# Altium schematic symbol library Dent_Schlib.SchLib: 46 symbols (part 2 of 2)
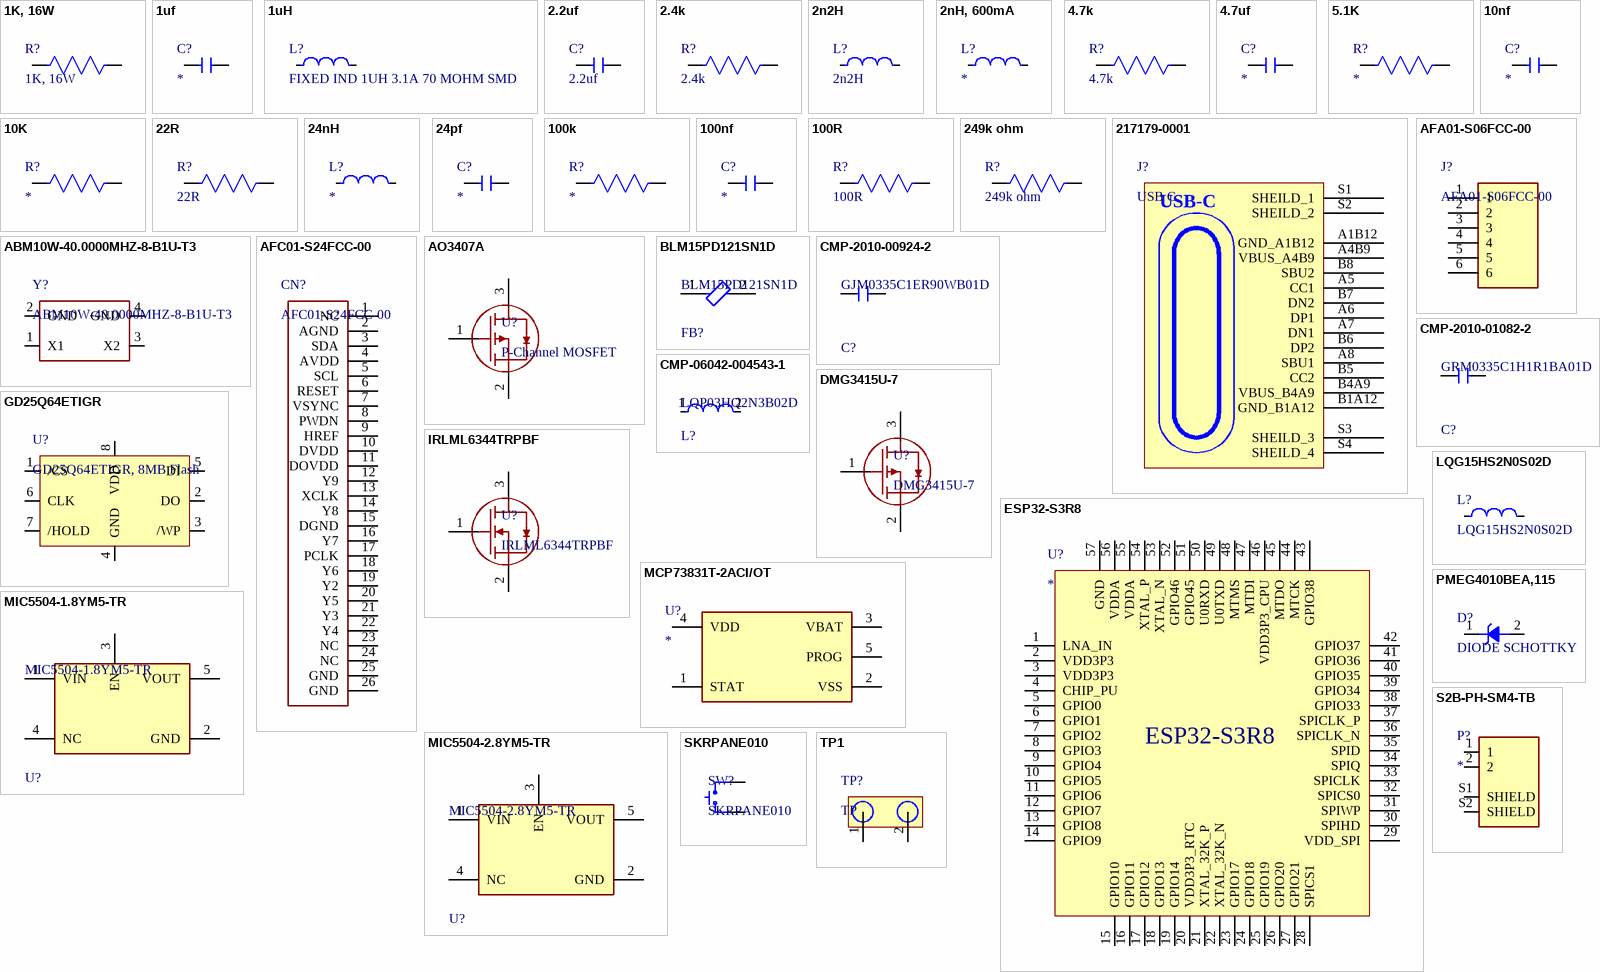
[diagram p2: symbols 1K, 16W to TP1]

## DMG3415U-7
designator U?
P-Channel 20 V 4A (Ta) 900mW (Ta) Surface Mount SOT-23-3; Manufacturer: Diodes; Package Body Material: Plastic; Transistor Element Material: SILICON; Additional Feature: HIGH RELIABILITY; Drain-source On Resistance-Max: 42.5mR; DS Breakdown Voltage-Min: 20V; FET Technology: METAL-OXIDE SEMICONDUCTOR; Number of Elements: 1; Operating Mode: ENHANCEMENT MODE; Time @ Peak Reflow Temperature-Max (s): 40s; Transistor Application: SWITCHING; Qualification Status: Not Qualified; Supplier: Digikey; Supplier Part Number: DMG3415UDICT-ND; Manufacturer Part Number: DMG3415U-7; RoHS: Yes; Category: MOSFETs; Stock: 10798; Pricing: 1=0.45, 10=0.277, 100=0.1743, 500=0.13838 (USD); Pins: 3; Package Shape: Rectangular; Terminal Finish: Tin; Max Operating Temperature: 150°C; JESD-609 Code: e3; Polarity/Channel Type: P-CHANNEL; Drain Current-Max (Abs) (ID): 4A; Drain Current-Max (ID): 4A; JESD-30 Code: R-PDSO-G3; Moisture Sensitivity Level: 1; Package Style: SMALL OUTLINEMeter; Peak Reflow Temperature (Cel): 260°C; Power Dissipation-Max (Abs): 900mW; Surface Mount: Yes; Terminal Form: Gull Wing; Terminal Position: DUAL; Reach SVHC Compliant: Yes; RoHS Compliant: Yes; ComponentLink1URL: https://datasheet.ciiva.com:443/pdfs/VipMasterIC/IC/DIOD/DIOD-S-A0004428614/DIOD-S-A0004428614-1.pdf?src-supplier=IHS+Markit; ComponentLink1Description: https://datasheet.ciiva.com:443/pdfs/VipMasterIC/IC/DIOD/DIOD-S-A0004428614/DIOD-S-A0004428614-1.pdf?src-supplier=IHS+Markit; ComponentLink2URL: https://datasheet.ciiva.com/11174/ds31735-11174977.pdf?src-supplier=Avnet; ComponentLink2Description: https://datasheet.ciiva.com/11174/ds31735-11174977.pdf?src-supplier=Avnet; ComponentLink3URL: https://datasheet.ciiva.com/13061/ds31735-64958-13061831.pdf?src-supplier=Mouser; ComponentLink3Description: https://datasheet.ciiva.com/13061/ds31735-64958-13061831.pdf?src-supplier=Mouser; ComponentLink4URL: https://datasheet.ciiva.com/935/ds31735-935013.pdf?src-supplier=Digikey; ComponentLink4Description: https://datasheet.ciiva.com/935/ds31735-935013.pdf?src-supplier=Digikey; ComponentLink5URL: https://datasheet.ciiva.com/935/ds31735-935014.pdf?src-supplier=Digikey; ComponentLink5Description: https://datasheet.ciiva.com/935/ds31735-935014.pdf?src-supplier=Digikey; ComponentLink6URL: https://datasheet.ciiva.com/935/ds31735-935015.pdf?src-supplier=Digikey; ComponentLink6Description: https://datasheet.ciiva.com/935/ds31735-935015.pdf?src-supplier=Digikey; ComponentLink7URL: https://datasheet.ciiva.com/8115/ds31735-8115357.pdf?src-supplier=Avnet; ComponentLink7Description: https://datasheet.ciiva.com/8115/ds31735-8115357.pdf?src-supplier=Avnet; ComponentLink8URL: https://datasheet.ciiva.com/8023/ds31735-8023980.pdf?src-supplier=Element14; ComponentLink8Description: https://datasheet.ciiva.com/8023/ds31735-8023980.pdf?src-supplier=Element14; ComponentLink9URL: https://datasheet.ciiva.com/22712/1915618-22712394.pdf?src-supplier=Element14; ComponentLink9Description: https://datasheet.ciiva.com/22712/1915618-22712394.pdf?src-supplier=Element14; ComponentLink10URL: https://datasheet.ciiva.com/16387/ds31735-16387485.pdf?src-supplier=Future+Electronics; ComponentLink10Description: https://datasheet.ciiva.com/16387/ds31735-16387485.pdf?src-supplier=Future+Electronics; LCSC Part No.: C96616
footprint SOT95P240X105-3N
pins: 1, 2, 3

## ESP32-S3R8
designator U?
IC RF TXRX+MCU BLE 56QFN; Manufacturer: Espressif Systems; Manufacturer Part Number: ESP32-S3R8; Supplier: Digikey; Supplier Part Number: 1904-ESP32-S3R8CT-ND; RoHS: No; Category: RF Receivers, Transceivers; Stock: 792; Pricing: 1=2.3, 2000=2.28001 (USD); ComponentLink1URL: https://datasheet.octopart.com/ESP32-S3R8-Espressif-Systems-datasheet-188867343.pdf?src-supplier=TME; ComponentLink1Description: https://datasheet.octopart.com/ESP32-S3R8-Espressif-Systems-datasheet-188867343.pdf?src-supplier=TME; LCSC Part No.: C2913194
footprint FP-ESP32-S3R8-IPC_B
pins: 1 LNA_IN, 2 VDD3P3, 3 VDD3P3, 4 CHIP_PU, 5 GPIO0, 6 GPIO1, 7 GPIO2, 8 GPIO3, 9 GPIO4, 10 GPIO5, 11 GPIO6, 12 GPIO7, 13 GPIO8, 14 GPIO9, 15 GPIO10, 16 GPIO11, 17 GPIO12, 18 GPIO13, 19 GPIO14, 20 VDD3P3_RTC, 21 XTAL_32K_P, 22 XTAL_32K_N, 23 GPIO17, 24 GPIO18, 25 GPIO19, 26 GPIO20, 27 GPIO21, 28 SPICS1, 29 VDD_SPI, 30 SPIHD, 31 SPIWP, 32 SPICS0, 33 SPICLK, 34 SPIQ, 35 SPID, 36 SPICLK_N, 37 SPICLK_P, 38 GPIO33, 39 GPIO34, 40 GPIO35, 41 GPIO36, 42 GPIO37, 43 GPIO38, 44 MTCK, 45 MTDO, 46 VDD3P3_CPU, 47 MTDI, 48 MTMS, 49 U0TXD, 50 U0RXD, 51 GPIO45, 52 GPIO46, 53 XTAL_N, 54 XTAL_P, 55 VDDA, 56 VDDA, 57 GND

## GD25Q64ETIGR
designator U?, comment GD25Q64ETIGR, 8MB Flash
2.7V~3.6V -40℃~85℃ 64MBIT 133MHZ SOP-8-150MIL Nor Flash Rohs; Manufacturer: GigaDevice; Interface: Serial; Max Supply Current: 25mA; Max Supply Voltage: 3.6V; Min Supply Voltage: 3V; Number of Circuits: 1; Operating Supply Voltage: 3.3V; Supplier: DigiKey; Supplier Part Number: 1970-GD25Q64ETIGRCT-ND; Manufacturer Part Number: GD25Q64ETIGR; RoHS: Compliant; Category: Flash; Stock: 3294; Pricing: 1=1.05, 10=0.985, 25=0.958, 50=0.9372, 100=0.9161, 250=0.8882, 500=0.8671, 1000=0.8461 (USD); Clock Rate: 133MHz; Height - Seated (Max): 1.75mm; Length: 4.9mm; Max Operating Temperature: 85°C; Memory Format: FLASH; Min Operating Temperature: -40°C; Number of Terminals: 8; Terminal Pitch: 1.27mm; Width: 3.9mm; ComponentLink1URL: https://datasheet.octopart.com:443/GD25Q64ETIGR-GigaDevice-datasheet-182344543.pdf?src-supplier=IHS; ComponentLink1Description: https://datasheet.octopart.com:443/GD25Q64ETIGR-GigaDevice-datasheet-182344543.pdf?src-supplier=IHS; LCSC Part No.: C2976334
footprint SOIC127P600X175-8N
pins: 1 /CS, 2 DO, 3 /WP, 4 GND, 5 DI, 6 CLK, 7 /HOLD, 8 VDD

## IRLML6344TRPBF
designator U?
MOSFET N-CH 30V 5A MICRO3/SOT23; Manufacturer: Infineon; Manufacturer Package Identifier: Micro3; Drain to Source Resistance: 29mΩ; Element Configuration: Single; Fall Time: 9.1ns; Gate to Source Voltage (Vgs): 12V; Input Capacitance: 650pF; Max Junction Temperature (Tj): 150°C; Max Power Dissipation: 1.3W; Nominal Vgs: 800mV; Number of Channels: 1; Recovery Time: 15ns; Value: 37MΩ; Rise Time: 5.6ns; Turn-Off Delay Time: 22ns; Turn-On Delay Time: 4.2ns; Supplier: DigiKey; Supplier Part Number: IRLML6344TRPBFCT-ND; Manufacturer Part Number: IRLML6344TRPBF; RoHS: Compliant; Category: MOSFETs; Stock: 89780; Pricing: 1=0.38, 10=0.249, 100=0.1612, 500=0.1424, 1000=0.12703 (USD); Case/Package: SOT-23; Continuous Drain Current (ID): 5A; Drain to Source Breakdown Voltage: 30V; Drain to Source Voltage (Vdss): 30V; Height: 1.12mm; Lead Free: Lead Free; Length: 3.04mm; Lifecycle Status: Production; Max Operating Temperature: 150°C; Min Breakdown Voltage: 30V; Min Operating Temperature: -55°C; Mounting Technology: Surface Mount; Number of Elements: 1; Pins: 3; Number of Terminals: 3; On-State Resistance: 29mΩ; Package Quantity: 3000; Packaging: Tape & Reel; Power Dissipation: 1.3W; Radiation Hardening: No; Rds On Max: 29mΩ; REACH SVHC: Yes; Schedule B: 8541290080, 8541290080|8541290080|8541290080|8541290080|8541290080; Threshold Voltage: 800mV; Width: 1.4mm; ComponentLink1URL: https://datasheet.octopart.com:443/IRLML6344TRPBF-Infineon-datasheet-166549069.pdf?src-supplier=IHS; ComponentLink1Description: https://datasheet.octopart.com:443/IRLML6344TRPBF-Infineon-datasheet-166549069.pdf?src-supplier=IHS; ComponentLink2URL: https://datasheet.octopart.com:443/IRLML6344TRPBF-Infineon-datasheet-41230536.pdf?src-supplier=element14+APAC; ComponentLink2Description: https://datasheet.octopart.com:443/IRLML6344TRPBF-Infineon-datasheet-41230536.pdf?src-supplier=element14+APAC; ComponentLink3URL: https://datasheet.octopart.com:443/IRLML6344TRPBF-Infineon-datasheet-10031181.pdf?src-supplier=Farnell; ComponentLink3Description: https://datasheet.octopart.com:443/IRLML6344TRPBF-Infineon-datasheet-10031181.pdf?src-supplier=Farnell; ComponentLink4URL: https://sigma.octopart.com:443/138896058/technical_drawing/Infineon-IRLML6344TRPBF.pdf?src-supplier=Upverter; ComponentLink4Description: https://sigma.octopart.com:443/138896058/technical_drawing/Infineon-IRLML6344TRPBF.pdf?src-supplier=Upverter; ComponentLink5URL: https://datasheet.octopart.com:443/IRLML6344TRPBF-International-Rectifier-datasheet-14062076.pdf?src-supplier=iiiC; ComponentLink5Description: https://datasheet.octopart.com:443/IRLML6344TRPBF-International-Rectifier-datasheet-14062076.pdf?src-supplier=iiiC; ComponentLink6URL: http://sigma.octopart.com:80/conflict_mineral_statement/Infineon-company-51.pdf?src-supplier=Compliance+Statements; ComponentLink6Description: http://sigma.octopart.com:80/conflict_mineral_statement/Infineon-company-51.pdf?src-supplier=Compliance+Statements; ComponentLink7URL: http://sigma.octopart.com:80/rohs_statement/International-Rectifier-company-54.pdf?src-supplier=Compliance+Statements; ComponentLink7Description: http://sigma.octopart.com:80/rohs_statement/International-Rectifier-company-54.pdf?src-supplier=Compliance+Statements; ComponentLink8URL: http://sigma.octopart.com:80/reach_statement/International-Rectifier-company-55.pdf?src-supplier=Compliance+Statements; ComponentLink8Description: http://sigma.octopart.com:80/reach_statement/International-Rectifier-company-55.pdf?src-supplier=Compliance+Statements; LCSC Part No.: C53550
footprint TRANS_IRLML6344TRPBF
pins: 1, 2, 3

## LQG15HS2N0S02D
designator L?
Inductor RF Chip Multi-Layer 2nH 0.3nH 100MHz 8Q-Factor Air 300mA 100mOhm DCR 0402 Paper T/R; Manufacturer: Murata; Manufacturer Lifecycle Status: IN PRODUCTION; Current Rating: 900mA; DC Resistance (DCR): 90mΩ; Number of Circuits: 1; Q Factor: 8; Self Resonant Frequency: 6GHz; Shielding: No; Tolerance: 15%; Supplier: DigiKey; Supplier Part Number: 490-6569-1-ND; Manufacturer Part Number: LQG15HS2N0S02D; RoHS: Compliant; Category: Fixed Inductors; Stock: 58770; Pricing: 1=0.1, 10=0.036, 100=0.0298, 1000=0.02454, 5000=0.0214 (USD); Case/Package: 0402; Case Code (Imperial): 0402; Case Code (Metric): 1005; Core Material: Air; Current: 300mA; DC Current: 300mA; Depth: 550µm; Height: 500µm; Height - Seated (Max): 558.8µm; Value: 2nH; Lead Free: Contains Lead; Length: 1mm; Lifecycle Status: Production; Max Current Rating: 900mA; Max DC Current: 300mA; Max Operating Temperature: 125°C; Military Standard: Not; Min Operating Temperature: -55°C; Pins: 2; Number of Terminals: 2; Radiation Hardening: No; REACH SVHC: Yes; RMS Current (Irms): 900mA; Schedule B: 8504500000, 8504500000|8504500000|8504500000|8504500000|8504500000; ESR: 90mΩ; Termination: SMD/SMT; Test Frequency: 100MHz; Width: 500µm; ComponentLink1URL: https://datasheet.octopart.com:443/LQG15HS2N0S02D-Murata-datasheet-11550074.pdf?src-supplier=Upverter; ComponentLink1Description: https://datasheet.octopart.com:443/LQG15HS2N0S02D-Murata-datasheet-11550074.pdf?src-supplier=Upverter; ComponentLink2URL: https://datasheet.octopart.com:443/LQG15HS2N0S02D-Murata-datasheet-501917.pdf?src-supplier=Upverter; ComponentLink2Description: https://datasheet.octopart.com:443/LQG15HS2N0S02D-Murata-datasheet-501917.pdf?src-supplier=Upverter; ComponentLink3URL: https://datasheet.octopart.com:443/LQG15HS2N0S02D-Murata-datasheet-104420594.pdf?src-supplier=element14+APAC; ComponentLink3Description: https://datasheet.octopart.com:443/LQG15HS2N0S02D-Murata-datasheet-104420594.pdf?src-supplier=element14+APAC; ComponentLink4URL: https://datasheet.octopart.com:443/LQG15HS2N0S02D-Murata-datasheet-166148638.pdf?src-supplier=TME; ComponentLink4Description: https://datasheet.octopart.com:443/LQG15HS2N0S02D-Murata-datasheet-166148638.pdf?src-supplier=TME; ComponentLink5URL: https://datasheet.octopart.com:443/LQG15HS2N0S02D-Murata-datasheet-140712221.pdf?src-supplier=Ciiva; ComponentLink5Description: https://datasheet.octopart.com:443/LQG15HS2N0S02D-Murata-datasheet-140712221.pdf?src-supplier=Ciiva; ComponentLink6URL: https://datasheet.octopart.com:443/LQG15HS2N0S02D-Murata-datasheet-138753340.pdf?src-supplier=Ciiva; ComponentLink6Description: https://datasheet.octopart.com:443/LQG15HS2N0S02D-Murata-datasheet-138753340.pdf?src-supplier=Ciiva; ComponentLink7URL: https://datasheet.octopart.com:443/LQG15HS2N0S02D-Murata-datasheet-142295944.pdf?src-supplier=Arrow.cn; ComponentLink7Description: https://datasheet.octopart.com:443/LQG15HS2N0S02D-Murata-datasheet-142295944.pdf?src-supplier=Arrow.cn; ComponentLink8URL: https://datasheet.octopart.com:443/LQG15HS2N0S02D-Murata-datasheet-145449626.pdf?src-supplier=Geoflip; ComponentLink8Description: https://datasheet.octopart.com:443/LQG15HS2N0S02D-Murata-datasheet-145449626.pdf?src-supplier=Geoflip; ComponentLink9URL: https://datasheet.octopart.com/LQG15HS2N0S02D-Murata-datasheet-14395927.pdf; ComponentLink9Description: https://datasheet.octopart.com/LQG15HS2N0S02D-Murata-datasheet-14395927.pdf; ComponentLink10URL: https://datasheet.octopart.com:443/LQG15HS2N0S02D-Murata-datasheet-44660258.pdf?src-supplier=Future+Electronics; ComponentLink10Description: https://datasheet.octopart.com:443/LQG15HS2N0S02D-Murata-datasheet-44660258.pdf?src-supplier=Future+Electronics; ComponentLink11URL: http://sigma.octopart.com:80/reach_statement/Murata-company-16.pdf?src-supplier=Compliance+Statements; ComponentLink11Description: http://sigma.octopart.com:80/reach_statement/Murata-company-16.pdf?src-supplier=Compliance+Statements; LCSC Part No.: C18216
footprint INDC1005X55N (FIXED IND 2nH 900mA 90mΩ 0402)
pins: 1, 2

## MCP73831T-2ACI/OT
designator U?
IC BATT CNTL LI-ION 1CEL SOT23-5; Manufacturer: Microchip; Manufacturer Part Number: MCP73831T-2ACI/OT; Package Body Material: Plastic; Adjustable Threshold: Yes; Throw Configuration: POWER SUPPLY SUPPORT CIRCUIT; Number of Channels: 1; Package Equivalence Code: TSOP5/6,.11,37; Power Supplies: 3.3/5V; Supply Current-Max (Isup): 1.5mA; Max Supply Voltage: 6V; Min Supply Voltage: 3.75V; Nominal Supply Voltage: 5.2V; Time @ Peak Reflow Temperature-Max (s): 40s; Qualification Status: Not Qualified; Supplier: Digikey; Supplier Part Number: MCP73831T-2ACI/OTCT-ND; RoHS: Yes; Category: Battery Management; Stock: 33354; Pricing: 1=0.76, 25=0.63, 100=0.6125, 3000=0.5831 (USD); Case/Package: LSSOP; Pins: 5; Package Shape: Rectangular; Terminal Finish: Tin; Min Operating Temperature: -40°C; Max Operating Temperature: 85°C; JESD-609 Code: e3; JESD-30 Code: R-PDSO-G5; Moisture Sensitivity Level: 1; Channels: 1; Package Style: SMALL OUTLINE, LOW PROFILE, SHRINK PITCHMeter; Peak Reflow Temperature (Cel): 260°C; Surface Mount: Yes; Terminal Form: Gull Wing; Terminal Position: DUAL; Length: 2.95mm; Width: 1.65mm; Height - Seated (Max): 1.45mm; Terminal Pitch: 0.95mm; Temperature Grade: INDUSTRIAL; Reach SVHC Compliant: Yes; RoHS Compliant: Yes; ComponentLink1URL: https://datasheet.ciiva.com:443/pdfs/VipMasterIC/IC/MCHP/MCHPS05673/MCHPS05673-1.pdf?src-supplier=IHS+Markit; ComponentLink1Description: https://datasheet.ciiva.com:443/pdfs/VipMasterIC/IC/MCHP/MCHPS05673/MCHPS05673-1.pdf?src-supplier=IHS+Markit; ComponentLink2URL: https://datasheet.ciiva.com/22828/0900766b80d2b53a-22828876.pdf?src-supplier=Rs; ComponentLink2Description: https://datasheet.ciiva.com/22828/0900766b80d2b53a-22828876.pdf?src-supplier=Rs; ComponentLink3URL: https://datasheet.ciiva.com/1137/630369-1137803.pdf?src-supplier=Element14; ComponentLink3Description: https://datasheet.ciiva.com/1137/630369-1137803.pdf?src-supplier=Element14; ComponentLink4URL: https://datasheet.ciiva.com/46385/630369-46385324.pdf?src-supplier=Element14; ComponentLink4Description: https://datasheet.ciiva.com/46385/630369-46385324.pdf?src-supplier=Element14; ComponentLink5URL: https://datasheet.ciiva.com/16286/filehandler-aspxddocname-en025112-16286957.pdf?src-supplier=Future+Electronics; ComponentLink5Description: https://datasheet.ciiva.com/16286/filehandler-aspxddocname-en025112-16286957.pdf?src-supplier=Future+Electronics; ComponentLink6URL: https://datasheet.ciiva.com/1931/21984e-1931954.pdf?src-supplier=Digikey; ComponentLink6Description: https://datasheet.ciiva.com/1931/21984e-1931954.pdf?src-supplier=Digikey; ComponentLink7URL: https://datasheet.ciiva.com/1931/21984e-1931955.pdf?src-supplier=Digikey; ComponentLink7Description: https://datasheet.ciiva.com/1931/21984e-1931955.pdf?src-supplier=Digikey; ComponentLink8URL: https://datasheet.ciiva.com/1931/21984e-1931953.pdf?src-supplier=Digikey; ComponentLink8Description: https://datasheet.ciiva.com/1931/21984e-1931953.pdf?src-supplier=Digikey; LCSC Part No.: C42432883
footprint FP-C04-091-OT-IPC_A
pins: 1 STAT, 2 VSS (power), 3 VBAT (power), 4 VDD (power), 5 PROG

## MIC5504-1.8YM5-TR
designator U?
IC REG LINEAR 1.8V 300MA SOT23-5; Manufacturer: Microchip; Dropout Voltage: 160mV; Number Of Outputs: 1; Nominal Supply Current: 38-42uA; Accuracy Percentage: 2%; Max Supply Voltage: 5.5V; Max Junction Temp: +125°C; Min Supply Voltage: 2.5V; Standoff Height: 0mm; Output Type: Fixed; Temperature Range Low: -40°C; Temperature Range High: +125°C; Automotive: No; Octopart: https://octopart.com/mic5504-1.8ym5-tr-microchip-66803399; RoHS: TRUE; Device Class L1: Integrated Circuits (ICs); Device Class L3: Voltage Regulators - Linear; Package: SOT23-5LD-PL-1; Device Class L2: Power Management ICs; Output Current: 300mA; Digikey Description: IC REG LINEAR 1.8V 300MA SOT23-5; Lead Free: Yes; Output Voltage: 1.8V; Height: 1.45mm; Category: IC; ComponentLink2Description: Datasheet; Temperature: -40°C to +125°C; ComponentLink2URL: http://ww1.microchip.com/downloads/en/DeviceDoc/MIC5501-02-03-04-300mA-Single-Output-LDO-in-Small-Packages-DS20006006B.pdf; Manufacturer Part Number: MIC5504-1.8YM5-TR; LCSC Part No.: C30197546
footprint FP-SOT23-5LD-PL-1-IPC_C
pins: 1 VIN (power), 2 GND (power), 3 EN, 4 NC, 5 VOUT

## MIC5504-2.8YM5-TR
designator U?
IC REG LINEAR 2.8V 300MA SOT23-5; Min Input Voltage: 2.5V; Output Type: Fixed; Number of Regulators: 1; Max Input Voltage: 5.5V; Min Current Limit: 400mA; Dropout Voltage: 160mV; Max Operating Temperature: 125°C; Mount: Surface Mount; Min Operating Temperature: -40°C; Case/Package: SOT-23-5; Output Current: 300mA; Number of Pins: 5; Nominal Output Voltage: 2.8V; Output Voltage: 2.8V; REACH SVHC: No SVHC; Packaging: Cut Tape; LCSC Part No.: C95749
footprint FP-SOT23-5LD-PL-1-IPC_C
pins: 1 VIN (power), 2 GND (power), 3 EN, 4 NC, 5 VOUT

## PMEG4010BEA,115
designator D?, comment DIODE SCHOTTKY
DIODE SCHOTTKY 40V 1A SOD323; Manufacturer: Nexperia; Manufacturer Part Number: PMEG4010BEA,115; Package Body Material: Plastic; Diode Element Material: SILICON; Number of Elements: 1; Diode Type: RECTIFIER; Time @ Peak Reflow Temperature-Max (s): 40s; Qualification Status: Not Qualified; Supplier: Digikey; Supplier Part Number: 1727-5211-1-ND; RoHS: Yes; Category: Schottky Diodes; Stock: 29096; Pricing: 1=0.29, 10=0.166, 100=0.1306, 500=0.09678, 1000=0.08581 (USD); Pins: 2; Package Shape: Rectangular; Terminal Finish: Tin; Max Operating Temperature: 150°C; JESD-609 Code: e3; JESD-30 Code: R-PDSO-G2; Package Style: SMALL OUTLINEMeter; Surface Mount: Yes; Terminal Form: Gull Wing; Terminal Position: DUAL; Moisture Sensitivity Level: 1; Max Output current: 1A; Peak Reflow Temperature (Cel): 260°C; Technology: SCHOTTKY; Reach SVHC Compliant: Yes; RoHS Compliant: Yes; ComponentLink1URL: https://datasheet.ciiva.com:443/pdfs/VipMasterIC/IC/PHGL/PHGLS19535/PHGLS19689-1.pdf?src-supplier=IHS+Markit; ComponentLink1Description: https://datasheet.ciiva.com:443/pdfs/VipMasterIC/IC/PHGL/PHGLS19535/PHGLS19689-1.pdf?src-supplier=IHS+Markit; ComponentLink2URL: http://www.farnell.com/datasheets/689588.pdf?src-supplier=Farnell; ComponentLink2Description: http://www.farnell.com/datasheets/689588.pdf?src-supplier=Farnell; ComponentLink3URL: https://datasheet.octopart.com/PMEG4010BEA%2C115-Nexperia-datasheet-142110124.pdf?src-supplier=Future+Electronics; ComponentLink3Description: https://datasheet.octopart.com/PMEG4010BEA%2C115-Nexperia-datasheet-142110124.pdf?src-supplier=Future+Electronics; ComponentLink4URL: https://datasheet.octopart.com/PMEG4010BEA%2C115-Nexperia-datasheet-180924740.pdf?src-supplier=Newark; ComponentLink4Description: https://datasheet.octopart.com/PMEG4010BEA%2C115-Nexperia-datasheet-180924740.pdf?src-supplier=Newark; LCSC Part No.: C36975
footprint SOD2512X110N
pins: 1, 2

## S2B-PH-SM4-TB
designator P?
Header S2B-PH-SM4-TB, 2.00mm, 2-contacts, side entry, SMT, /1000/reel; Manufacturer: JST; Supplier: Digikey; Supplier Part Number: 455-S2B-PH-SM4-TBCT-ND; Manufacturer Part Number: S2B-PH-SM4-TB; RoHS: Yes; Stock: 12093; Pricing: 1=0.48, 10=0.409, 100=0.3477, 500=0.31032 (USD); LCSC Part No.: C295747
footprint JST_S2B-PH-SM4-TB(LF)(SN)
pins: 1, 2, S1 SHIELD, S2 SHIELD

## SKRPANE010
designator SW?
Tactile Switch SPST-NO Top Actuated Surface Mount; Manufacturer: ALPS; Contact Resistance: 500mΩ; Electrical Life: 1Mcycles; Insulation Resistance: 100MΩ; Max Current Rating: 50mA; Max Voltage Rating (DC): 16V; Number of Positions: 1; Operating Force: 1.57N; Throw Configuration: SPST; Supplier: DigiKey; Supplier Part Number: 4809-SKRPANE010CT-ND; Manufacturer Part Number: SKRPANE010; RoHS: Compliant; Category: Tactile Switches; Stock: 7681; Pricing: 1=0.27, 10=0.238, 25=0.2232, 50=0.2114, 100=0.2, 250=0.1854, 500=0.17496, 1000=0.16517 (USD); Color: Natural; Height: 1.6mm; Length: 4.2mm; Lifecycle Status: Production; Max Operating Temperature: 85°C; Min Operating Temperature: -30°C; ComponentLink1URL: https://datasheet.octopart.com:443/SKRPANE010-ALPS-datasheet-182235269.pdf?src-supplier=IHS; ComponentLink1Description: https://datasheet.octopart.com:443/SKRPANE010-ALPS-datasheet-182235269.pdf?src-supplier=IHS; ComponentLink2URL: https://datasheet.octopart.com:443/SKRPANE010-ALPS-datasheet-103684837.pdf?src-supplier=Electro+Sonic; ComponentLink2Description: https://datasheet.octopart.com:443/SKRPANE010-ALPS-datasheet-103684837.pdf?src-supplier=Electro+Sonic; LCSC Part No.: C470426
footprint SKRPANE010
pins: 1, 2, 3, 4

## TP1
designator TP?, comment TP  (no BOM)
footprint TestPoint
pins: 1, 2

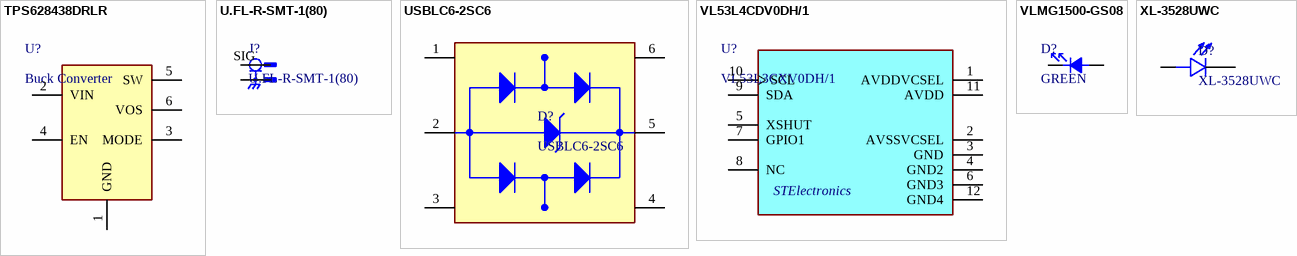
[diagram p1: symbols TPS628438DRLR to XL-3528UWC]

## TPS628438DRLR
designator U?, comment Buck Converter
Buck Switching Regulator IC Positive Programmable 1.8V 1 Output 600mA SOT-563, SOT-666; Manufacturer: Texas Instruments; Manufacturer Part Number: TPS628438DRLR; Supplier: Digikey; Supplier Part Number: 296-TPS628438DRLRCT-ND; RoHS: No; Category: LDO; Stock: 2001; Pricing: 1=1.55, 10=1.13, 25=1.026, 100=0.9116, 250=0.857, 500=0.82408, 1000=0.79698 (USD); LCSC Part No.: C38060243
footprint SOT-563 (1.8V to 5.5V, 600mA, 275nA Iq Small Step-Down Converter)
pins: 1 GND, 2 VIN, 3 MODE (power), 4 EN, 5 SW (power), 6 VOS (power)

## U.FL-R-SMT-1(80)
designator J?
U.FL (UMCC) Connector Receptacle, Male Pin 50 Ohms Surface Mount Solder; Package: None; Price: None; Value: *; MP: U.FL-R-SMT-1(80); Availability: Unavailable; LCSC Part No.: C88374; ComponentLink1Description: Link; ComponentLink1URL: C88374
footprint HIROSE_U.FL-R-SMT-1(80)
pins: G1 GND, G2 GND, SIG

## USBLC6-2SC6
designator D?
17V Clamp 5A (8/20µs) Ipp Tvs Diode Surface Mount SOT-23-6; Manufacturer: STMicroelectronics; Breakdown Voltage: 6V; Value: 2.5pF; Data Rate: 480Mbps; Direction: Unidirectional; Element Configuration: Dual; ESD Protection: Yes; Forward Voltage: 1.1V; Leakage Current: 150nA; Max Junction Temperature (Tj): 125°C; Max Repetitive Reverse Voltage (Vrrm): 5.25V; Number of Bidirectional Channels: 2; Number of Elements: 1; Reverse Standoff Voltage: 5V; Test Current: 1mA; Supplier: DigiKey; Supplier Part Number: 497-5235-1-ND; Manufacturer Part Number: USBLC6-2SC6; RoHS: Compliant; Category: TVS Diodes; Stock: 121944; Pricing: 1=0.36, 10=0.243, 100=0.163, 500=0.127, 1000=0.114 (USD); Case/Package: SOT-23; China RoHS: Compliant; Clamping Voltage: 17V; Contact Plating: Tin; Depth: 1.75mm; Height: 1.45mm; Lead Free: Lead Free; Length: 3.05mm; Lifecycle Status: Production; Max Breakdown Voltage: 6V; Max Operating Temperature: 125°C; Max Reverse Leakage Current: 150nA; Min Breakdown Voltage: 6V; Min Operating Temperature: -40°C; Mounting Technology: Surface Mount; Number of Channels: 2; Pins: 6; Number of Terminals: 6; Operating Supply Voltage: 1.1V; Peak Pulse Current: 5A; Peak Reverse Current: 150nA; Polarity: Unidirectional; Power Line Protection: Yes; Radiation Hardening: No; REACH SVHC: Yes; Reverse Breakdown Voltage: 6V; Schedule B: 8536300000, 8536300000|8536300000|8536300000|8536300000|8536300000|8536300000|8536300000|8536300000|8536300000|8536300000|8536300000|8536300000|8536300000|8536300000|8536300000|8536300000|8536300000|8536300000|8536300000|8536300000|8536300000|8536300000|8536300000|85; Termination: SMD/SMT; Width: 1.75mm; Working Voltage: 5V; ComponentLink1URL: https://datasheet.octopart.com:443/USBLC6-2SC6-STMicroelectronics-datasheet-10412581.pdf?src-supplier=Newark; ComponentLink1Description: https://datasheet.octopart.com:443/USBLC6-2SC6-STMicroelectronics-datasheet-10412581.pdf?src-supplier=Newark; ComponentLink2URL: https://datasheet.octopart.com:443/USBLC6-2SC6-STMicroelectronics-datasheet-181961833.pdf?src-supplier=Newark; ComponentLink2Description: https://datasheet.octopart.com:443/USBLC6-2SC6-STMicroelectronics-datasheet-181961833.pdf?src-supplier=Newark; ComponentLink3URL: https://datasheet.octopart.com:443/USBLC6-2SC6-STMicroelectronics-datasheet-525477.pdf?src-supplier=Factory+Futures; ComponentLink3Description: https://datasheet.octopart.com:443/USBLC6-2SC6-STMicroelectronics-datasheet-525477.pdf?src-supplier=Factory+Futures; ComponentLink4URL: https://datasheet.octopart.com:443/USBLC6-2SC6-STMicroelectronics-datasheet-82998616.pdf?src-supplier=Farnell; ComponentLink4Description: https://datasheet.octopart.com:443/USBLC6-2SC6-STMicroelectronics-datasheet-82998616.pdf?src-supplier=Farnell; ComponentLink5URL: https://datasheet.octopart.com:443/USBLC6-2SC6-STMicroelectronics-datasheet-46285.pdf?src-supplier=Farnell; ComponentLink5Description: https://datasheet.octopart.com:443/USBLC6-2SC6-STMicroelectronics-datasheet-46285.pdf?src-supplier=Farnell; ComponentLink6URL: https://datasheet.octopart.com:443/USBLC6-2SC6-STMicroelectronics-datasheet-14050643.pdf?src-supplier=iiiC; ComponentLink6Description: https://datasheet.octopart.com:443/USBLC6-2SC6-STMicroelectronics-datasheet-14050643.pdf?src-supplier=iiiC; ComponentLink7URL: https://datasheet.octopart.com:443/USBLC6-2SC6-STMicroelectronics-datasheet-10521292.pdf?src-supplier=Jameco; ComponentLink7Description: https://datasheet.octopart.com:443/USBLC6-2SC6-STMicroelectronics-datasheet-10521292.pdf?src-supplier=Jameco; LCSC Part No.: C7519
footprint SOT95P280X145-6N
pins: 1 I/O1_IN, 2 GND (power), 3 I/O2_IN, 4 I/O2_OUT, 5 VBUS (power), 6 I/O1_OUT

## VL53L4CDV0DH/1
designator U?, comment VL53L3CXV0DH/1
TIME-OF-FLIGHT PROXIMITY SENSOR; Manufacturer: STMicroelectronics; Manufacturer Part Number: VL53L4CDV0DH/1; Supplier: Digikey; Supplier Part Number: 497-VL53L4CDV0DH/1CT-ND; RoHS: No; Category: Linear ICs; Stock: 12328; Pricing: 1=4.23, 10=3.205, 25=2.9484, 100=2.6663, 250=2.53184, 500=2.45078, 1000=2.38405 (USD); LCSC Part No.: C3178291
footprint FP-LGA-12-DM00392521-MFG
pins: 1 AVDDVCSEL (power), 2 AVSSVCSEL (power), 3 GND (power), 4 GND2 (power), 5 XSHUT, 6 GND3 (power), 7 GPIO1, 8 NC, 9 SDA, 10 SCL, 11 AVDD (power), 12 GND4 (power)
text: STElectronics

## VLMG1500-GS08
designator D?, comment GREEN
LED YLW-GRN 0402 SMD; Manufacturer: Vishay; Manufacturer Part Number: VLMG1500-GS08; Color: Green,Yellow; Shape: Rectangular; Forward Current: 30mA; Forward Voltage: 2.4V; Luminous Intensity-Nom: 90mcd; Channels: 1; Optoelectronic Device Type: SINGLE COLOR LED; Reverse Voltage-Max: 5V; Viewing Angle: 130°; Overall Height: 0.35mm; Supplier: Digikey; Supplier Part Number: VLMG1500-GS08CT-ND; RoHS: Yes; Category: LEDs; Stock: 234660; Pricing: 1=0.24, 10=0.164, 100=0.1147, 500=0.09218, 1000=0.0847 (USD); Mounting Technology: Surface Mount; Pins: 2; Color@wavelength: Green; Min Operating Temperature: -30°C; Max Operating Temperature: 85°C; Packaging: Tape and Reel; Size: 0.5mm; Terminal Pitch: 0.95mm; Reach SVHC Compliant: Yes; RoHS Compliant: Yes; ComponentLink1URL: https://datasheet.ciiva.com:443/pdfs/VipMasterIC/IC/VISH/VISH-S-A0003457490/VISH-S-A0003457490-1.pdf?src-supplier=IHS+Markit; ComponentLink1Description: https://datasheet.ciiva.com:443/pdfs/VipMasterIC/IC/VISH/VISH-S-A0003457490/VISH-S-A0003457490-1.pdf?src-supplier=IHS+Markit; ComponentLink2URL: https://datasheet.ciiva.com/12071/vlmo1500-244705-12071911.pdf?src-supplier=Mouser; ComponentLink2Description: https://datasheet.ciiva.com/12071/vlmo1500-244705-12071911.pdf?src-supplier=Mouser; ComponentLink3URL: https://datasheet.ciiva.com/30005/vlmo1500-30005134.pdf?src-supplier=Avnet; ComponentLink3Description: https://datasheet.ciiva.com/30005/vlmo1500-30005134.pdf?src-supplier=Avnet; LCSC Part No.: C511404
footprint LEDC1005X35N
pins: 1, 2

## XL-3528UWC
designator D?
20mA 6000K~7500K Yellow Lens -20℃~+80℃ op View Mount White 120° 70mW 3.1V SMD3528-2P LED Indication - Discrete ROHS; MF: Optoflash; SnapEDA_Link: https://www.snapeda.com/parts/OF-SMD3528WC/Optoflash/view-part/?ref=snap; Package: PLCC-2 Optoflash; Value: XL-3528UWC; MP: XL-3528UWC; Check_prices: https://www.snapeda.com/parts/OF-SMD3528WC/Optoflash/view-part/?ref=eda; LCSC Part No.: C2843809; ComponentLink1Description: Link; ComponentLink1URL: https://mm.digikey.com/Volume0/opasdata/d220001/medias/docus/6472/5962_XL-3528UWC%20%20%203528%E6%AD%A3%E7%99%BD.pdf
footprint LED_OF-SMD3528WC
pins: 1 A, 2 C